# Altium footprint library Diode_SMD.PcbLib: 100 footprints (part 1 of 7)
Each footprint in its own frame and in the unit in brackets; x right, y up, seen from the top. Pads: shape width x height; smd on the part's side, far side on the other; paste and mask are expansions set on the pad; w line width, h text height; cw(c..) or ccw(c..) is an arc to the next point about the centre after c.
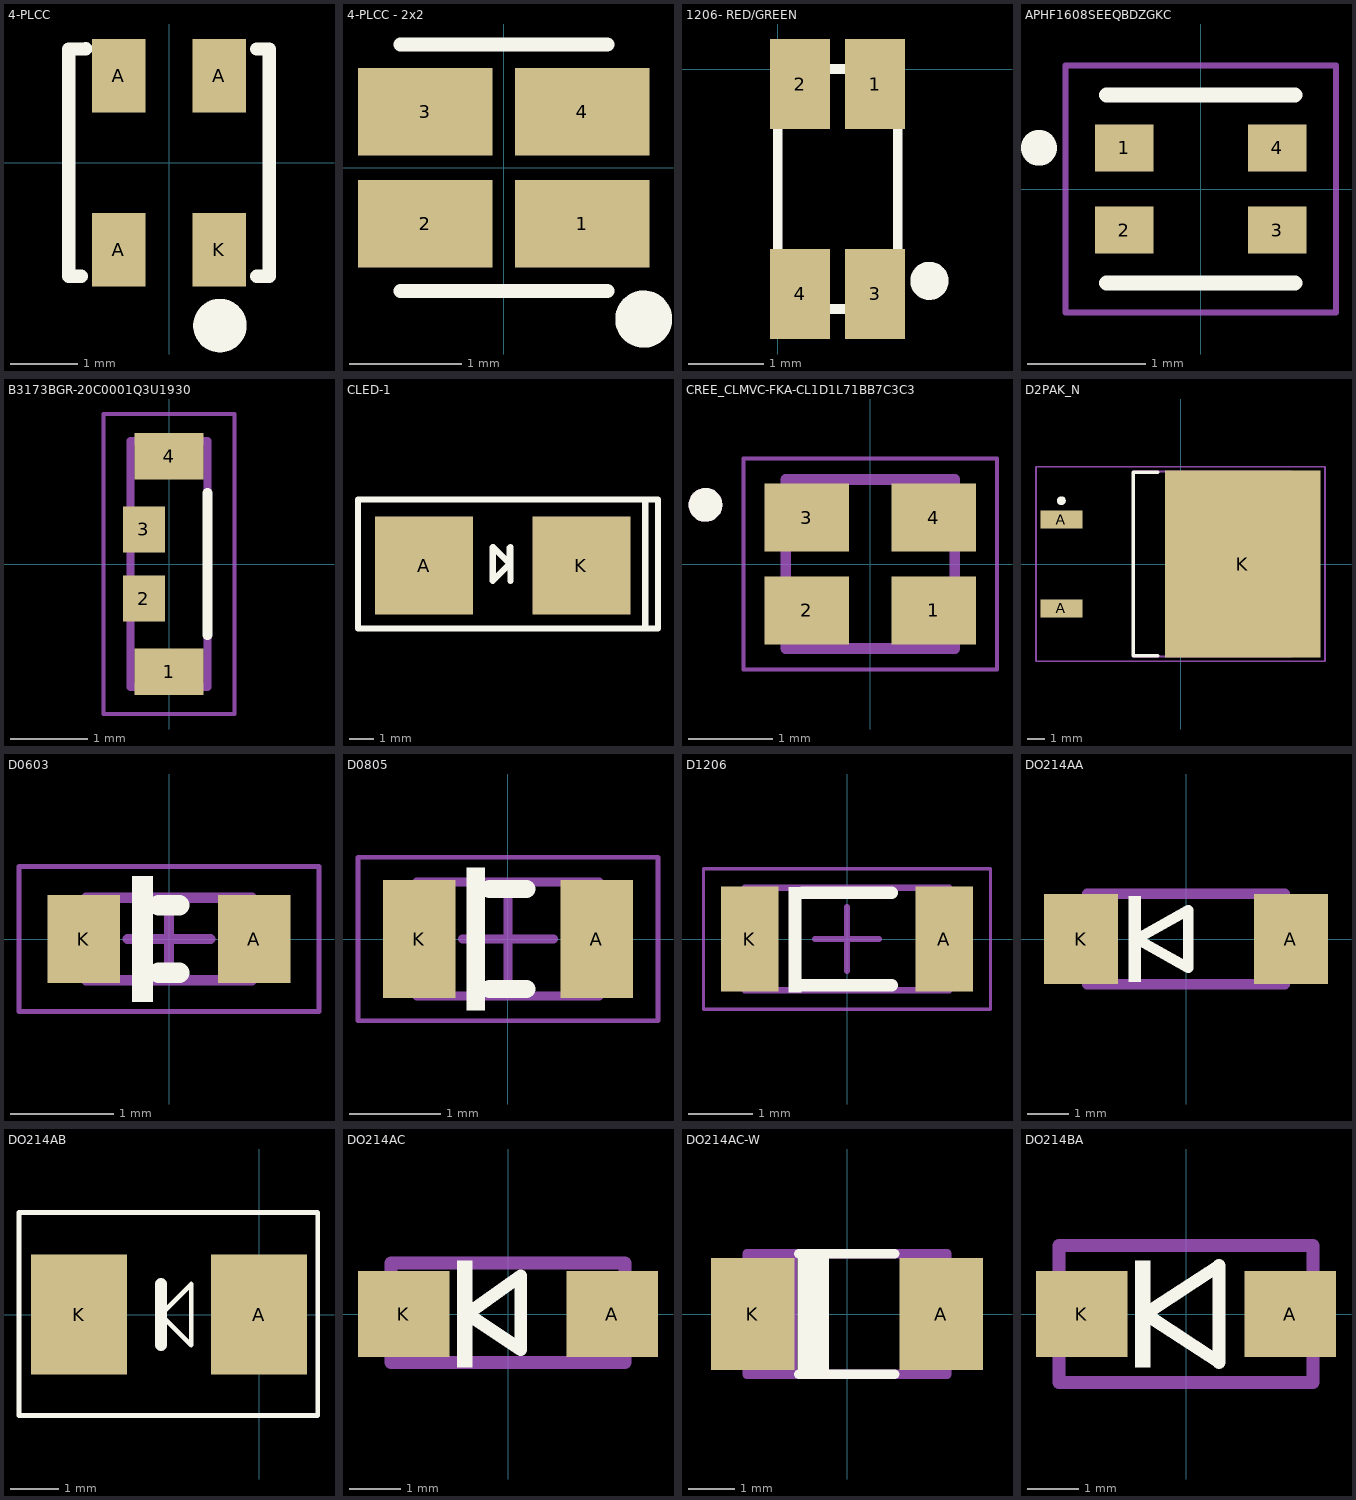
[diagram p0: the footprints below, top view; thin cyan lines are the x and y axes]

## 4-PLCC [mm]
pads (4):
  rect 0.8x1.1 smd mask+0.14: A(-0.75,-1.3) A(-0.75,1.3) A(0.75,1.3) K(0.75,-1.3)
Top Overlay:
  lines w0.2: -1.312,-1.7 -1.5,-1.7 -1.5,1.7 -1.245,1.702 ; 1.312,-1.7 1.5,-1.7 1.5,1.7 1.312,1.7
  lines w0.4: 0.934,-2.337 ccw(c0.762,-2.438) 0.936,-2.339
3D body "SFH_4248_081113_geometry.STEP": height 3.78, standoff 0.01, extent -1.451,-1.725 1.349,1.775

## 4-PLCC - 2x2 [mm]
pads (4):
  rect 1.2x0.78 smd: 1(0.7,-0.5) 2(-0.7,-0.5) 3(-0.7,0.5) 4(0.7,0.5)
Top Overlay:
  circle w0.254: c1.25,-1.35 r0.127
  lines w0.127: -0.922,-1.1 0.925,-1.1 ; -0.922,1.1 0.925,1.1
3D body: height 0.9, standoff 0.2, extent -0.362,-0.562 0.163,0.563
3D body: height 0.9, standoff 0, extent -1,-1 1,0.95
3D body: height 0.9, standoff 0.1, extent -0.8,-0.8 0.8,0.8
3D body: height 0.4, standoff 0, extent -1.075,-0.787 -0.925,-0.212
3D body: height 0.4, standoff 0, extent -1.075,0.213 -0.925,0.788
3D body: height 0.4, standoff 0, extent 0.925,0.213 1.075,0.788
3D body: height 0.4, standoff 0, extent 0.925,-0.787 1.075,-0.212

## 1206- RED/GREEN [mm]
pads (4):
  rect 0.8x1.2 smd: 1(1.3,-0.2) 2(0.3,-0.2) 3(1.3,-3) 4(0.3,-3)
Top Overlay:
  circle w0.254: c2.025,-2.825 r0.127
  lines w0.127: 0,-3.2 0,0 1.6,0 1.6,-3.2 0,-3.2

## APHF1608SEEQBDZGKC [mm]
pads (4):
  rect 0.5x0.4 smd mask+0.05: 1(-0.65,0.35) 2(-0.65,-0.35) 3(0.65,-0.35) 4(0.65,0.35)
Top Overlay:
  circle w0.254: c-1.375,0.35 r0.025
  lines w0.127: -0.8,-0.8 0.8,-0.8 ; -0.8,0.8 0.8,0.8
Mechanical 15:
  lines w0.05: -1.15,-1.05 -1.15,1.05 1.15,1.05 1.15,-1.05 -1.15,-1.05
3D body "APHF1608.STEP": height 0.49, standoff -0.01, extent -0.8,-0.4 0.8,0.4

## B3173BGR-20C0001Q3U1930 [mm]
pads (4):
  rect 0.9x0.6 smd mask+0.05: 1(0,-1.4) 4(0,1.4)
  rect 0.55x0.6 smd mask+0.05: 2(-0.325,-0.45) 3(-0.325,0.45)
Top Overlay:
  lines w0.127: 0.5,-0.925 0.5,0.925
Mechanical 1:
  lines w0.1: -0.5,-1.6 -0.5,1.6 0.5,1.6 0.5,-1.6 -0.5,-1.6
Mechanical 15:
  lines w0.05: -0.85,-1.95 0.85,-1.95 0.85,1.95 -0.85,1.95 -0.85,-1.95
3D body "rgb-harvatek-step.STEP": height 1, standoff 0, extent -0.3,-1.6 1.2,1.6

## CLED-1 [mm]
pads (2):
  rect 4x4 smd: A(-80.1,-35.075) K(-73.675,-35.075)
Top Overlay:
  lines w0.254: -76.575,-35.7 -76.575,-34.325 -76.6,-34.35 -76.6,-35 ; -71.4,-32.375 -71.075,-32.375 -71.075,-37.575 ; -76.6,-35 -77.3,-35.7 -77.3,-34.325 -77.275,-34.325 -76.6,-35 ; -82.8,-37.65 -82.8,-32.375 -71.175,-32.375 -70.55,-32.375 -70.55,-37.65 -82.8,-37.65

## CREE_CLMVC-FKA-CL1D1L71BB7C3C3 [mm] "2.00mm L x 2.00mm W, 4PLCC"
pads (4):
  rect 1x0.8 smd: 1(0.75,-0.55) 2(-0.75,-0.55) 3(-0.75,0.55) 4(0.75,0.55)
Top Overlay:
  circle w0.2: c-1.95,0.7 r0.1
Mechanical 13:
  circle w0.2: c-1.95,0.7 r0.1
  lines w0.127: -1,-1 1,-1 1,1 -1,1 -1,-1
Mechanical 15:
  lines w0.05: -1.5,-1.25 1.5,-1.25 1.5,1.25 -1.5,1.25 -1.5,-1.25
3D body "CLMVC-FKA-CL1D1L71BB7C3C3.step": height 1, standoff 0, extent -1,-1 1,1

## D2PAK_N [mm] "D2-PAK, 4-Leads, Body 8.8x10.4mm, Pitch 2.54mm, Lead Span 15.1mm, IPC Medium Density"
height 4.69
pads (3):
  rect 2.4x1.05 smd: A(-6.8,-2.54) A(-6.8,2.54)
  rect 8.9x10.65 smd: K(3.55,0)
Top Overlay:
  circle w0.25: c-6.8,3.615 r0.125
  lines w0.2: -1.3,-5.25 -2.7,-5.25 -2.7,5.25 -1.3,5.25
Mechanical 13:
  lines w0.1: -2.7,-5.275 -2.7,5.275 6.3,5.275 6.3,-5.275 -2.7,-5.275
Mechanical 15:
  lines w0.1: -0.5,0 0.5,0 ; 0,-0.5 0,0.5 ; -8.25,-5.55 -8.25,5.55 8.25,5.55 8.25,-5.55 -8.25,-5.55
3D body "User Library-DPAK.step": height 4.98, standoff -0.04, extent -7.765,-5.08 7.499,5.08

## D0603 [mm] "Chip Diode 2-Leads, Body 1,60x0,80mm, IPC Medium Density"
height 0.5
pads (2):
  rect 0.7x0.85 smd: A(0.825,0) K(-0.825,0)
Top Overlay:
  rectangle: -0.356,-0.61 -0.152,0.61
  lines w0.2: -0.1,-0.325 0.1,-0.325 ; -0.1,0.325 0.1,0.325
Mechanical 13:
  lines w0.1: -0.8,-0.4 -0.8,0.4 0.8,0.4 0.8,-0.4 -0.8,-0.4
Mechanical 15:
  lines w0.05: -1.45,-0.7 -1.45,0.7 1.45,0.7 1.45,-0.7 -1.45,-0.7
  lines w0.1: -0.4,0 0.4,0 ; 0,-0.4 0,0.4
3D body "User Library-D0603.step": height 0.56, standoff 0, extent -0.85,-0.4 0.85,0.4

## D0805 [mm] "Chip Diode, 2-Leads, Body 2,00x1,25mm, IPC Medium Density"
height 0.5
pads (2):
  rect 0.8x1.3 smd: A(0.975,0) K(-0.975,0)
Top Overlay:
  rectangle: -0.457,-0.787 -0.254,0.787
  lines w0.2: -0.2,-0.55 0.2,-0.55 ; -0.2,0.55 0.2,0.55
Mechanical 13:
  lines w0.1: -1,-0.625 1,-0.625 1,0.625 -1,0.625 -1,-0.625
Mechanical 15:
  lines w0.05: -1.65,-0.9 1.65,-0.9 1.65,0.9 -1.65,0.9 -1.65,-0.9
  lines w0.1: -0.5,0 0.5,0 ; 0,-0.5 0,0.5
3D body "User Library-D0805.step": height 0.76, standoff 0, extent -1.143,-0.675 1.157,0.675

## D1206 [mm] "Chip Diode, 2-Leads, Body 3,20x1,60mm, IPC Medium Density"
height 0.55
pads (2):
  rect 0.9x1.65 smd: A(1.525,0) K(-1.525,0)
Top Overlay:
  rectangle: -0.914,-0.838 -0.711,0.813
  lines w0.2: -0.7,-0.725 0.7,-0.725 ; -0.7,0.725 0.7,0.725
Mechanical 13:
  lines w0.1: -1.6,-0.8 -1.6,0.8 1.6,0.8 1.6,-0.8 -1.6,-0.8
Mechanical 15:
  lines w0.05: -2.25,-1.1 -2.25,1.1 2.25,1.1 2.25,-1.1 -2.25,-1.1
  lines w0.1: -0.5,0 0.5,0 ; 0,-0.5 0,0.5
3D body "User Library-D1206.step": height 0.85, standoff 0, extent -1.675,-0.865 1.675,0.865

## DO214AA [mm]
pads (2):
  rect 1.8x2.2 smd: A(2.55,0) K(-2.55,0)
Top Overlay:
  rectangle: -1.4,-1.05 -1.1,1.05
  lines w0.254: -1.2,0 0.05,0.7 0.05,-0.7 -1.2,0
Mechanical 16:
  rectangle: -2.75,-0.7 -2.5,0.65
  rectangle: 2.5,-0.7 2.75,0.65
  lines w0.254: -2.4,-1.1 2.4,-1.1 2.4,1.1 -2.4,1.1 -2.4,-1.1
3D body "User Library-DO-214AA_SMB.step": height 2.2, standoff -0.05, extent -2.624,-1.85 2.675,1.85

## DO214AB [mm]
pads (2):
  rect 2x2.5 smd: A(0,0) K(-3.75,0)
Top Overlay:
  lines w0.102: -5,-2.1 -5,2.125 1.225,2.125 1.225,-2.1 -5,-2.1 ; -2.046,0 -1.411,0.635 -1.411,0 -1.411,-0.635 -2.046,0
  lines w0.25: -2.046,-0.635 -2.046,0 -2.046,0.635
3D body: height 0.3, standoff 0, extent -4.575,-1.125 -3.6,1.125
3D body: height 1.1, standoff 0.7, extent -4.575,-1.125 -4.15,1.125
3D body: height 1.1, standoff 0, extent -4.575,-1.125 -4.275,1.125
3D body: height 1.1, standoff 0, extent 0.5,-1.125 0.8,1.125
3D body: height 1.1, standoff 0.7, extent 0.375,-1.125 0.8,1.125
3D body: height 0.3, standoff 0, extent -0.175,-1.125 0.8,1.125
3D body: height 2.23, standoff 2.2, extent -3.512,-1.8 -3.05,1.825
3D body: height 2.2, standoff 0.5, extent -4.175,-1.95 0.4,2
3D body: height 0.5, standoff 0, extent -2.375,-1.95 -1.275,2
3D body: height 2, standoff 0.4, extent -4.175,-1.95 0.4,2

## DO214AC [mm]
pads (2):
  rect 1.8x1.7 smd: A(2.05,0) K(-2.05,0)
Top Overlay:
  rectangle: -1,-1.05 -0.7,1.05
  lines w0.254: -0.8,0 0.25,0.75 0.25,-0.7 -0.8,0
Mechanical 16:
  rectangle: -2.65,-0.7 -2.4,0.65
  rectangle: 2.4,-0.7 2.65,0.65
  lines w0.254: -2.3,-0.95 2.3,-0.95 2.3,1 -2.3,1 -2.3,-0.95
3D body "User Library-DO-214AC SMA.step": height 2.4, standoff 0, extent -2.6,-1.27 2.6,1.33

## DO214AC-W [mm]
pads (2):
  rect 1.8x2.4 smd: A(2.025,0) K(-2.025,0)
Top Overlay:
  rectangle: -1.065,-1.225 -0.39,1.225
  lines w0.203: -1.035,-1.3 1.025,-1.3 ; -1.035,1.3 1.025,1.3
Mechanical 16:
  rectangle: -1.75,-1.225 -1.075,1.225
  region: 2.825,1.1 2.175,1.1 2.175,-1.1 2.825,-1.1
  rectangle: -2.825,-1.1 -2.175,1.1
  lines w0.203: -2.15,-1.3 -2.15,1.3 2.15,1.3 2.15,-1.3 -2.15,-1.3
3D body "User Library-DO-214AC SMA.step": height 2.4, standoff 0, extent -2.625,-1.3 2.575,1.3

## DO214BA [mm]
pads (2):
  rect 1.8x1.7 smd: A(2.05,0) K(-2.05,0)
Top Overlay:
  rectangle: -1,-1.05 -0.7,1.05
  lines w0.254: -0.8,0 0.65,0.95 0.65,-0.95 -0.8,0
Mechanical 16:
  rectangle: -2.85,-0.7 -2.6,0.65
  rectangle: 2.6,-0.7 2.85,0.65
  lines w0.254: -2.5,-1.35 2.5,-1.35 2.5,1.35 -2.5,1.35 -2.5,-1.35
3D body "User Library-DO-214BA.step": height 2.91, standoff -0.05, extent -2.625,-1.3 2.625,1.3